# EAGLE library part PMIC-ETA6003 (library IC-new)
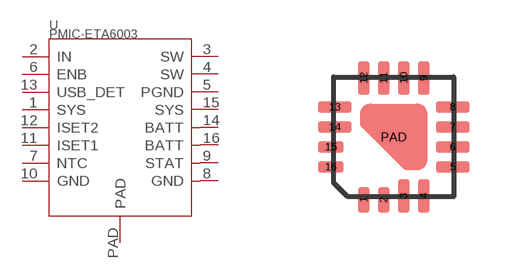
[diagram p2: symbol with the pads of QFN16GA-0.5-3X3MM; footprint QFN16GA-0.5-3X3MM]

Designator prefix U

## PMIC-ETA6003-310990023  [QFN16GA-0.5-3X3MM]
1  SYS
2  IN
3  SW
4  SW
5  PGND
6  ENB
7  NTC
8  GND
9  STAT
10  GND
11  ISET1
12  ISET2
13  USB_DET
14  BATT
15  SYS
16  BATT
PAD  PAD

## Footprint QFN16GA-0.5-3X3MM (pad centres in mm)
smd 0.28 x 0.65: 1 -0.75,-1.575; 2 -0.25,-1.575
smd 0.28 x 0.85: 3 0.25,-1.475; 4 0.75,-1.475; 9 0.75,1.475; 10 0.25,1.475; 11 -0.25,1.475; 12 -0.75,1.475
smd 0.85 x 0.28: 5 1.475,-0.75; 6 1.475,-0.25; 7 1.475,0.25; 8 1.475,0.75; 13 -1.475,0.75; 14 -1.475,0.25
smd 0.65 x 0.28: 15 -1.575,-0.25; 16 -1.575,-0.75
smd 0.508 x 0.508: PAD 0,0